# Altium schematic symbol library Crystal.SchLib: 1 symbol
Pins are listed as number, name and electrical type; pins without a type are passive.

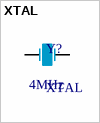
[diagram p0: symbol XTAL]

## XTAL
designator Y?  Frequency: 4MHz
Crystal Oscillator
footprint XTAL 0.2
footprint Xtal-clock
footprint Xtal-HC49/4H_SMX (Quartz Crystal, SM; Body 13.4 (inc. leads) x 4.9 mm (LxW max))
footprint XTAL-CM415 (32.768 KHz SMD Crystall)
pins: 1 OSC1, 2 OSC2